# Altium schematic symbol library WI-FI_2.Schlib: 1 symbol
Pins are listed as number, name and electrical type; pins without a type are passive.

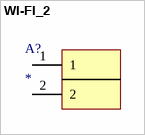
[diagram p0: symbol WI-FI_2]

## WI-FI_2
designator A?
pins: 1, 2